# Altium integrated library LIB2022 - Semiconductors.IntLib: 17 symbols
Pins are listed as number, name and electrical type; pins without a type are passive.

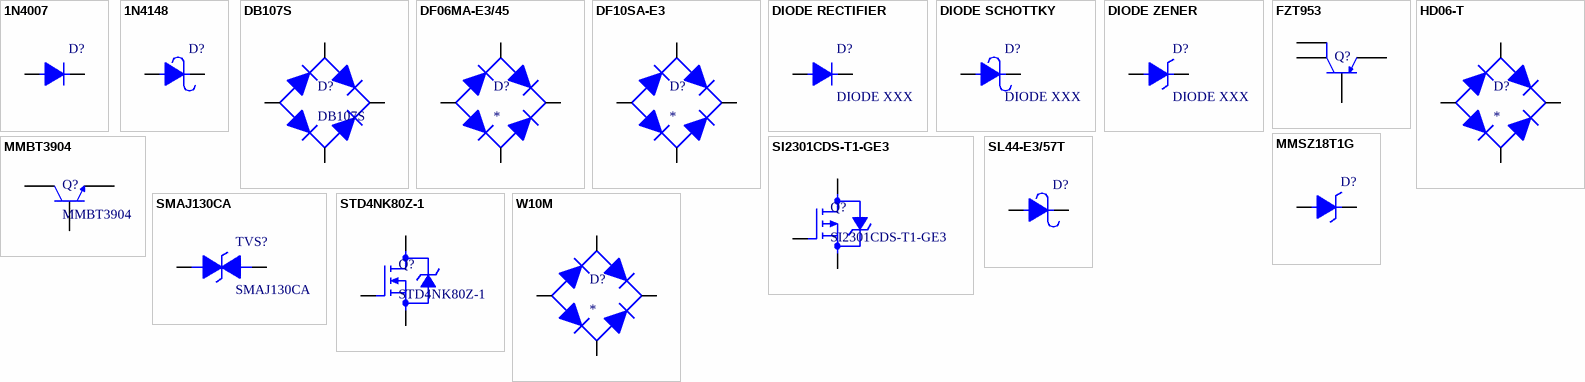
[diagram p0: symbols 1N4007 to W10M]

## 1N4007
designator D?
Diode Rectifier 1A 1kV
footprint DO-214AC-SMA
pins: 1, 2

## 1N4148
designator D?
Diode Schottky 500mW
footprint SOD-123
pins: 1, 2

## DB107S
designator D?
Bridge Rectifier Single Phase Standard 1000 V Surface Mount 4-MiniDIP
footprint DBS
pins: 1 AC+, 2 +, 3 AC-, 4 -

## DF06MA-E3/45
designator D?
Bridge Rectifier Single Phase Standard 600 V Through Hole DFM
footprint DF06MA-E3/45
pins: 1 AC+, 2 +, 3 AC-, 4 -

## DF10SA-E3
designator D?
Bridge Rectifier Single Phase Standard 1 kV Surface Mount DFS
footprint DFS
pins: 1 AC+, 2 +, 3 AC-, 4 -

## DIODE RECTIFIER
designator D?, comment DIODE XXX
Diode Rectifier
footprint DO41
footprint DO-214AC-SMA
footprint SOD-123
pins: 1, 2

## DIODE SCHOTTKY
designator D?, comment DIODE XXX
Diode Schottky
footprint DO41
footprint DO201-AD
footprint DO-214AB-SMC
footprint DO-214AC-SMA
pins: 1, 2

## DIODE ZENER
designator D?, comment DIODE XXX
Diode Zener
footprint DO40
footprint DO41
pins: 1, 2

## FZT953
designator Q?
footprint SOT223-DN
pins: B, C, C-TAB, E

## HD06-T
designator D?
Bridge Rectifier Single Phase Standard 600 V Surface Mount 4-MiniDIP
footprint HD06 - MiniDIP
pins: 1 AC+, 2 +, 3 AC-, 4 -

## MMBT3904
designator Q?
Bipolar (BJT) Transistor NPN 40 V 200 mA 300MHz 350 mW Surface Mount SOT-23
footprint VS-SOT-23
pins: 1 B, 2 E, 3 C

## MMSZ18T1G
designator D?
Diode Zener 18V
footprint SOD-123
pins: 1, 2

## SI2301CDS-T1-GE3
designator Q?
P-Channel 20 V 3.1A (Tc) 860mW (Ta), 1.6W (Tc) Surface Mount SOT-23-3 (TO-236)
footprint VS-SOT-23
pins: 1 G, 2 S, 3 D

## SL44-E3/57T
designator D?
Diode 40 V 4A Surface Mount DO-214AB (SMC)
footprint DO-214AB-SMC
pins: 1, 2

## SMAJ130CA
designator TVS?
265V Clamp 9A (8/20µs) Ipp Tvs Diode Surface Mount SMA (DO-214AC)
footprint DO-214AC-SMA
pins: 1, 2

## STD4NK80Z-1
designator Q?
N-Channel 800 V 3A (Tc) 80W (Tc) Through Hole TO-251 (IPAK)
footprint STD4NK80Z-1
pins: 1 G, 2 D, 3 S

## W10M
designator D?
footprint PUENTE - W10M
pins: 1 AC+, 2 +, 3 AC-, 4 -